# EAGLE library part SIM800V2 (library sim800v2)
modul for sim800v2 create by mikroavr.com
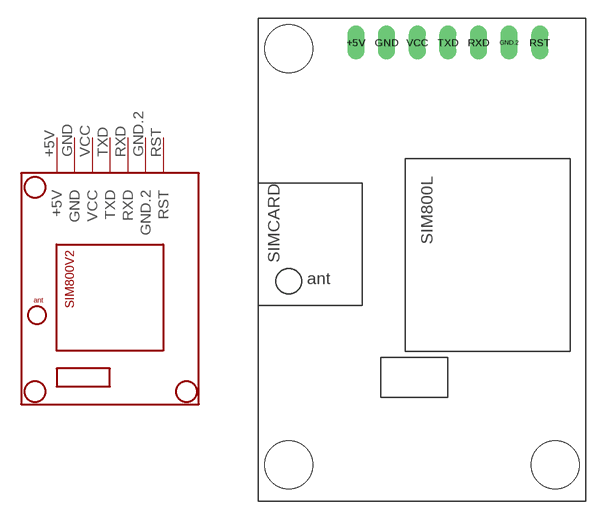
[diagram p0: symbol with the pads of SIM800V2; footprint SIM800V2]

Designator prefix -

## SIM800V2  [SIM800V2]
+5V  +5V
GND  GND
GND.2  GND.2
RST  RST
RXD  RXD
TXD  TXD
VCC  VCC

## Footprint SIM800V2 (pad centres in mm)
SIM800 v2 MODUL crete by mikroavr.com
drill 0.914 long: +5V 7.874,-2.286; GND 10.414,-2.286; GND.2 20.574,-2.286; RST 23.114,-2.286; RXD 18.034,-2.286; TXD 15.494,-2.286; VCC 12.954,-2.286
hole 4 at 2.286,-2.794
hole 4 at 2.286,-37.338
hole 4 at 24.384,-37.338